# EAGLE library part ADG788 (library analog-devices)
Quad SPDT Analog Switch 2.5 Ohm, 1.8 V to 5.5 V,+/-2.5 V Triple/Quad
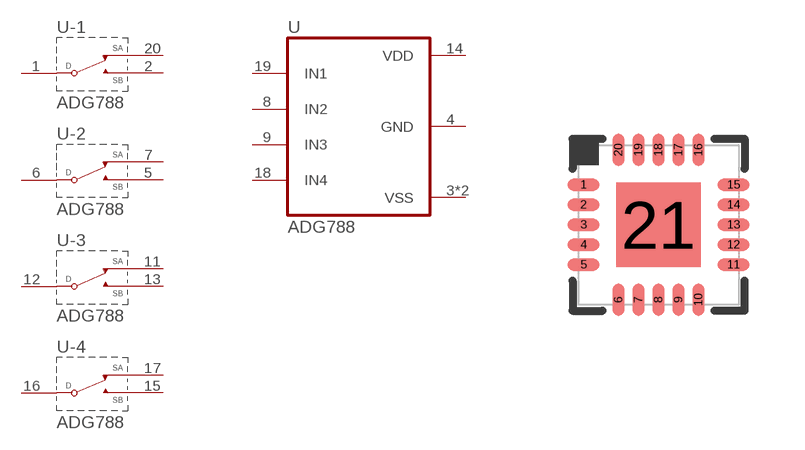
[diagram p82: symbol with the pads of LFCSP20_WQ; footprint LFCSP20_WQ]

Designator prefix U; gates -1=ADG-SPDT -2=ADG-SPDT -3=ADG-SPDT -4=ADG-SPDT G$5=ADG788

## ADG788  [LFCSP20_WQ]
1  -1:D  pas
2  -1:SB  pas
3  G$5:VSS  pwr
4  G$5:GND  pwr
5  -2:SB  pas
6  -2:D  pas
7  -2:SA  pas
8  G$5:IN2  in
9  G$5:IN3  in
11  -3:SA  pas
12  -3:D  pas
13  -3:SB  pas
14  G$5:VDD  pwr
15  -4:SB  pas
16  -4:D  pas
17  -4:SA  pas
18  G$5:IN4  in
19  G$5:IN1  in
20  -1:SA  pas
21  G$5:VSS  pwr

## Footprint LFCSP20_WQ (pad centres in mm)
20-LFCSP-WQ body 4 x 4 mm, 20-WFQFN Exposed Pad, CSP
smd 0.8 x 0.3: 1 -1.875,1; 2 -1.875,0.5; 3 -1.875,0; 4 -1.875,-0.5; 5 -1.875,-1; 11 1.875,-1; 12 1.875,-0.5; 13 1.875,0; 14 1.875,0.5; 15 1.875,1
smd 0.3 x 0.8: 6 -1,-1.875; 7 -0.5,-1.875; 8 0,-1.875; 9 0.5,-1.875; 10 1,-1.875; 16 1,1.875; 17 0.5,1.875; 18 0,1.875; 19 -0.5,1.875; 20 -1,1.875
smd 2.1 x 2.1: 21 0,0